# Altium integrated library TI Data Converters Analog to Digital Converter.IntLib: 2198 symbols (part 57 of 164)
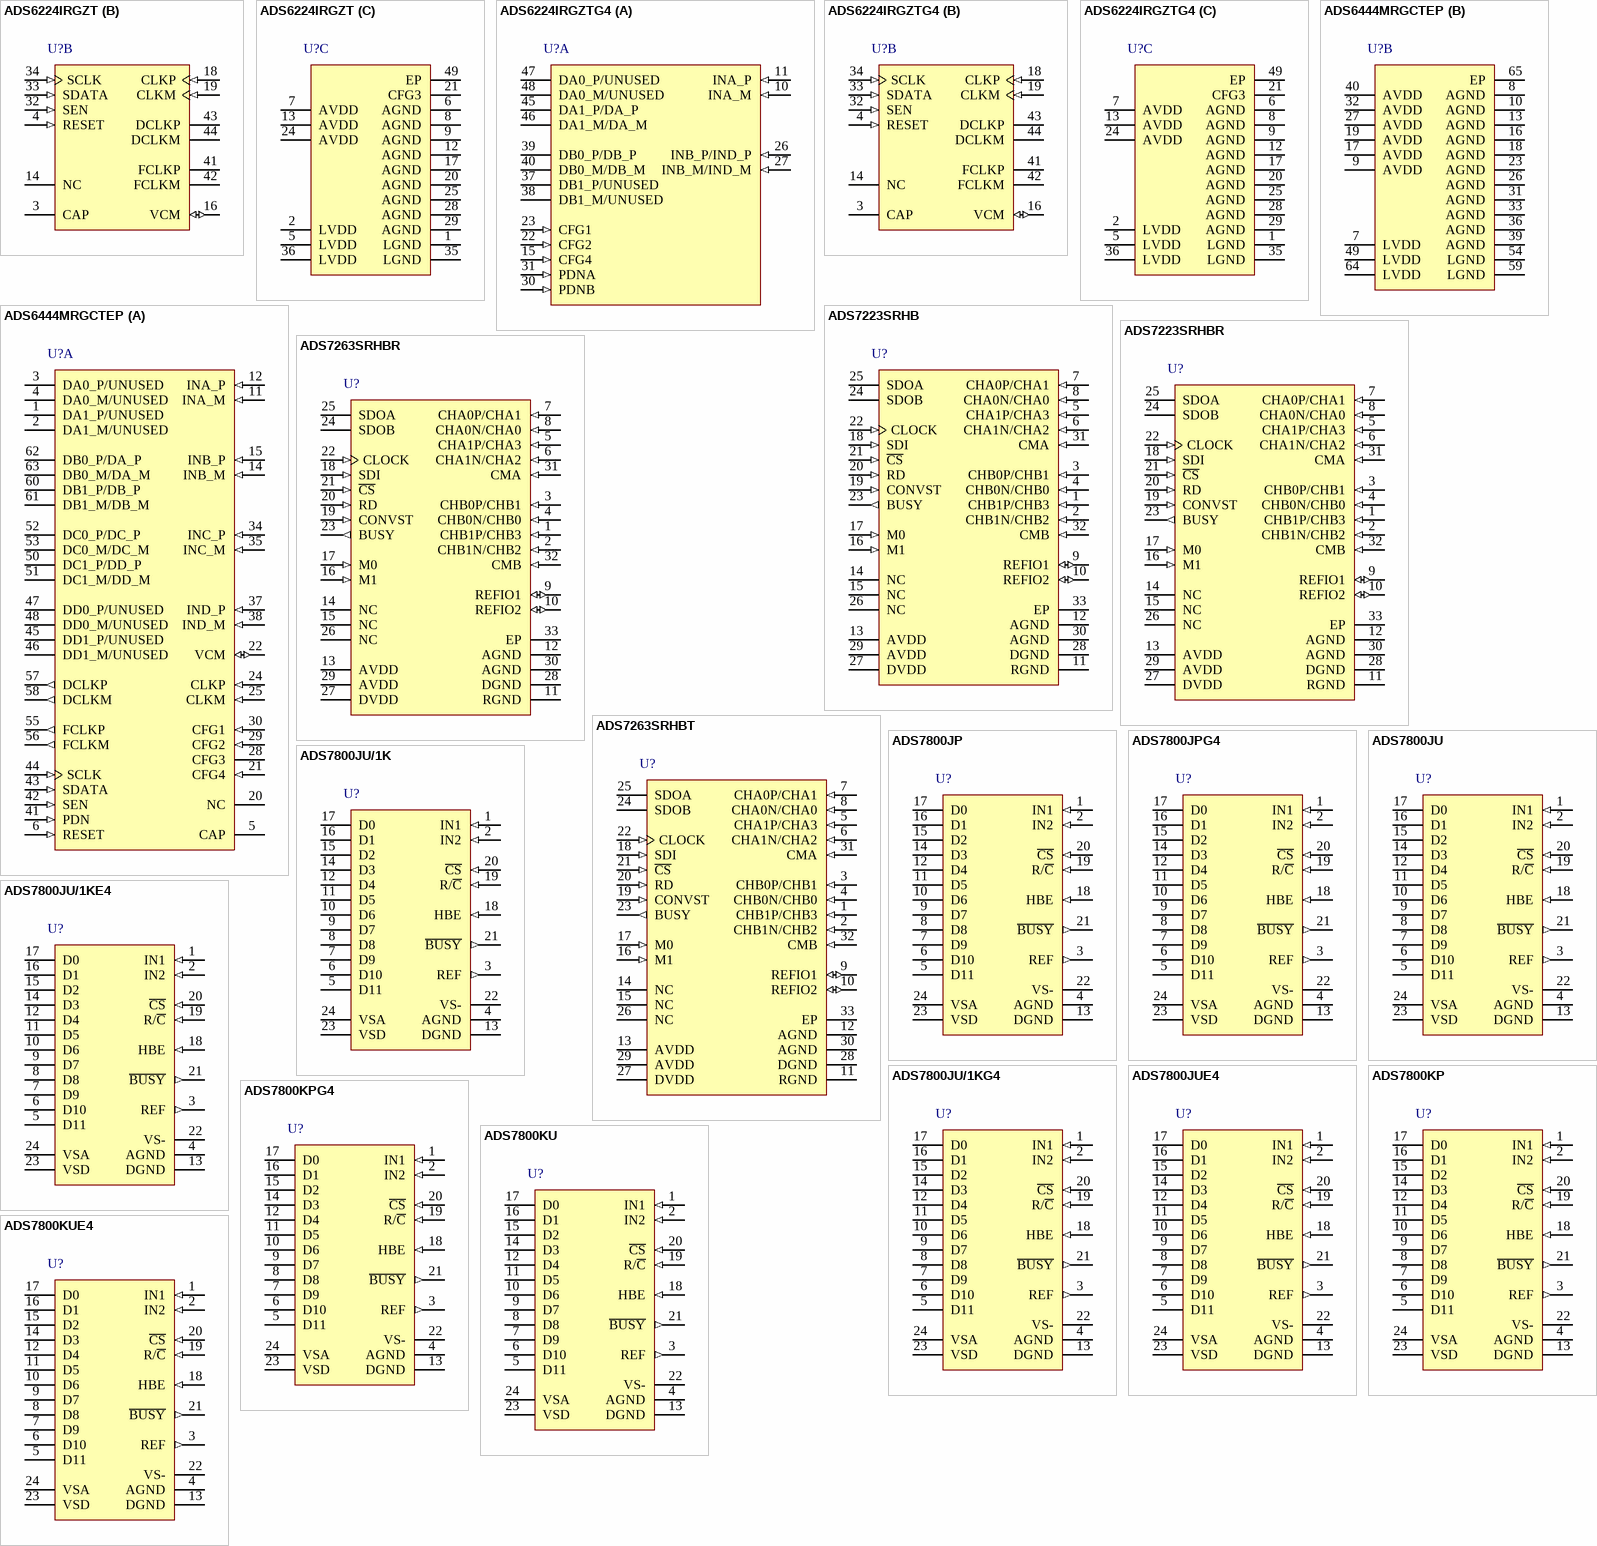
[diagram p182: symbols ADS6224IRGZT to ADS7800KUE4]

## ADS7263SRHBT
designator U?
14-Bit 1 MSPS 4 x 2 / 2 x 2 Simultaneous Sampling SAR ADC, -40 to 125 degC, 32-pin QFN (RHB32), Green (RoHS & no Sb/Br); Manufacturer: Texas Instruments; PartNumber: ADS7263SRHBT; # Input Channels: 4; Analog Voltage AV/DD(Max)(V): 5.5; Analog Voltage AV/DD(Min)(V): 2.7; Digital Supply(Min)(V): 2.3; INL(Max)(+/-LSB): 1; Interface: Serial; Resolution(Bits): 14; Sample Rate (max)(SPS): 1M; SFDR(dB): 92; SINAD(dB): 84; SNR(dB): 85; SubFamily: Precision ADC (<=10MSPS); DatasheetVersion: SBAS523B; PackageVersion: 4204326/D, 06/2011; PackageReference: RHB32-3450X3450TP; PackageDescription: 32-Pin Plastic Flat Pack, Body 5 x 5 mm, Pitch 0.5 mm; Supplier 1: Digi-Key; Supplier Part Number 1: ADS1217IPFBTG4-ND; Architecture: SAR; Digital Supply(Max)(V): 5.5; Eco-Plan: Green (RoHS & no Sb/Br); Mounting Technology: Surface Mount; Code_JEDEC: MO-220; ComponentLink1Description: Manufacturer URL; ComponentLink1URL: http://www.ti.com/; ComponentLink2Description: Datasheet; ComponentLink2URL: http://www.ti.com/general/docs/lit/getliterature.tsp?genericPartNumber=ADS7263&fileType=pdf; ComponentLink3Description: Package Specification; ComponentLink3URL: http://www.ti.com/lit/ml/mpqf130c/mpqf130c.pdf
footprint TI-RHB32-3450X3450TP_V (QFN, 32-Leads, Body 5x5mm, Pitch 0.5mm, Thermal Pad 3.45x3.45mm)
pins: 1 CHB1P/CHB3 (in) "Fully-differential noninverting analog input channel B1 or pseudo-differential input B3", 2 CHB1N/CHB2 (in) "Fully-differential inverting analog input channel B1 or pseudo-differential input B2", 3 CHB0P/CHB1 (in) "Fully-differential noninverting analog input channel B0 or pseudo-differential input B1", 4 CHB0N/CHB0 (in) "Fully-differential inverting analog input channel B0 or pseudo-differential input B0", 5 CHA1P/CHA3 (in) "Fully-differential noninverting analog input channel A1 or pseudo-differential input A3", 6 CHA1N/CHA2 (in) "Fully-differential inverting analog input channel A1 or pseudo-differential input A2", 7 CHA0P/CHA1 (in) "Fully-differential nonInverting analog input channel A1 or pseudo-differential input A1", 8 CHA0N/CHA0 (in) "Fully-differential inverting analog input channel A1 or pseudo-differential input A0", 9 REFIO1 (io) "Reference voltage input/output 1. A ceramic capacitor of 22uF connected to RGND is required.", 10 REFIO2 (io) "Reference voltage input/output 2. A ceramic capacitor of 22uF connected to RGND is required.", 11 RGND (power) "Reference ground. Connect to analog ground plane with a dedicated via.", 12 AGND (power) "Analog ground. Connect to analog ground plane.", 13 AVDD (power) "Analog power supply, 2.7V to 5.5V. Decouple to AGND with a 1uF ceramic capacitor.", 14 NC "This pin is not internally connected.", 15 NC "This pin is not internally connected.", 16 M1 (in) "Mode pin 1. Selects the digital output mode (see Table 4).", 17 M0 (in) "Mode pin 0. Selects analog input channel mode (see Table 4).", 18 SDI (in) "Serial data input. This pin is used to set up of the internal registers, and can also be used in ADS8361-compatible manner. The data on SDI are ignored when C\S\is high.", 19 CONVST (in) "Conversion start. The ADC switches from sample into hold mode on the rising edge of CONVST. Thereafter, the conversion starts with the next rising edge of the CLOCK pin.", 20 RD (in) "Read data. Synchronization pulse for the SDOx outputs and SDI input. RD only triggers when C\S\ is low.", 21 ~{CS} (in) "Chip select. When this pin is low, the SDOx, SDI, and RD pins are active; when this pin is high, the SDOx outputs are 3-stated, while the SDI and RD inputs are ignored.", 22 CLOCK (in) "External clock input. The range is 0.5MHz to 20MHz in half-clock mode, or 1MHz to 40MHz in full-clock mode.", 23 BUSY (out) "Converter busy indicator. BUSY goes high when the inputs are in hold mode and returns to low after the conversion is complete.", 24 SDOB (hiz) "Serial data output for converter B. Active only if M1 is low. 3-state when C\S\ is high.", 25 SDOA (hiz) "Serial data output for converter A. 3-state when C\S\ is high.", 26 NC "This pin is not internally connected.", 27 DVDD (power) "Digital supply, 2.3V to 5.5V. Decouple to DGND with a 1uF ceramic capacitor.", 28 DGND (power) "Digital ground. Connect to digital ground plane.", 29 AVDD (power) "Analog power supply, 2.7V to 5.5V. Decouple to AGND with a 1uF ceramic capacitor.", 30 AGND (power) "Analog ground. Connect to analog ground plane.", 31 CMA (in) "Common-mode voltage input for channels Ax (in pseudo-differential mode only).", 32 CMB (in) "Common-mode voltage input for channels Bx (in pseudo-differential mode only).", 33 EP

## ADS7800JP
designator U?
12-Bit 3 us Sampling ADC, -40 to 85 degC, 24-pin DIP (NT24), Green (RoHS & no Sb/Br); Manufacturer: Texas Instruments; PartNumber: ADS7800JP; # Input Channels: 1; Analog Voltage AV/DD(Max)(V): 5.25; Analog Voltage AV/DD(Min)(V): 4.75; Architecture: SAR; Interface: Parallel CMOS; Resolution(Bits): 12; Sample Rate (max)(SPS): 333k; SFDR(dB): 77; SINAD(dB): 70; SNR(dB): 71; SubFamily: Precision ADC (<=10MSPS); DatasheetVersion: SBAS001A; PackageVersion: 4040050/C, 04/2009; PackageReference: NT24; PackageDescription: 24-Pin Plastic Dual-In-Line Package, Body 31.64 x 6.73 mm, Pitch 2.54 mm; Supplier 1: Digi-Key; Supplier Part Number 1: 296-13063-ND; Digital Supply(Max)(V): 5.25; Digital Supply(Min)(V): 4.75; Eco-Plan: Green (RoHS & no Sb/Br); INL(Max)(+/-LSB): 1; Mounting Technology: Through Hole; ComponentLink1Description: Manufacturer URL; ComponentLink1URL: http://www.ti.com/; ComponentLink2Description: Datasheet; ComponentLink2URL: http://www.ti.com/general/docs/lit/getliterature.tsp?genericPartNumber=ADS7800&fileType=pdf; ComponentLink3Description: Package Specification; ComponentLink3URL: http://www.ti.com/litv/pdf/mpdi004a
footprint TI-NT24 (DIP, 24-Leads, Body 31.64x6.73mm, Pitch 2.54mm)
pins: 1 IN1 (in) "+/-10V Analog Input. Connected to GND for +/-5V range.", 2 IN2 (in) "+/-5V Analog Input. Connected to GND for +/-10V range.", 3 REF (out) "+2V Reference Output. Bypass to GND with 22uF to 47uF Tantalum. Buffer for external loads.", 4 AGND (power) "Analog Ground. Connect to pin 13.", 5 D11 (hiz) "Data Bit 11. Most Significant Bit (MSB).", 6 D10 (hiz) "Data Bit 10.", 7 D9 (hiz) "Data Bit 9.", 8 D8 (hiz) "Data Bit 8.", 9 D7 (hiz) "Data Bit 7 if HBE is LOW; LOW if HBE is HIGH.", 10 D6 (hiz) "Data Bit 6 if HBE is LOW; LOW if HBE is HIGH.", 11 D5 (hiz) "Data Bit 5 if HBE is LOW; LOW if HBE is HIGH.", 12 D4 (hiz) "Data Bit 4 if HBE is LOW; LOW if HBE is HIGH.", 13 DGND (power) "Digital Ground. Connect to pin 4.", 14 D3 (hiz) "Data Bit 3 if HBE is LOW; Data Bit 11 if HBE is HIGH.", 15 D2 (hiz) "Data Bit 2 if HBE is LOW; Data Bit 10 if HBE is HIGH.", 16 D1 (hiz) "Data Bit 1 if HBE is LOW; Data Bit 9 if HBE is HIGH.", 17 D0 (hiz) "Data Bit 0 if HBE is LOW. Least Significant Bit (LSB); Data Bit 8 if HBE is HIGH.", 18 HBE (in) "High Byte Enable. When held LOW, data output as 12 bits in parallel. When held HIGH, four MSBs presented on pins 14-17, pins 9-12 output LOWs. Must be LOW to initiate conversion.", 19 R/~{C} (in) "Read/Convert. Falling edge initiates conversion when C\S\ is LOW, HBE is LOW, and B\U\S\Y\ is HIGH.", 20 ~{CS} (in) "Chip Select. Outputs in Hi-Z state when HIGH. Must be LOW to initiate conversion or read data.", 21 ~{BUSY} (out) "Busy. Output LOW during conversion. Data valid on rising edge in Convert Mode.", 22 VS- (power) "Negative Power Supply. -12V or -15V. Bypass to GND.", 23 VSD (power) "Positive Digital Power Supply. +5V. Connect to pin 24, and bypass to GND.", 24 VSA (power) "Positive Analog Power Supply. +5V. Connect to pin 23, and bypass to GND."

## ADS7800JPG4
designator U?
12-Bit 3 us Sampling ADC, -40 to 85 degC, 24-pin DIP (NT24), Green (RoHS & no Sb/Br); Manufacturer: Texas Instruments; PartNumber: ADS7800JPG4; # Input Channels: 1; Analog Voltage AV/DD(Max)(V): 5.25; Analog Voltage AV/DD(Min)(V): 4.75; Architecture: SAR; Interface: Parallel CMOS; Resolution(Bits): 12; Sample Rate (max)(SPS): 333k; SFDR(dB): 77; SINAD(dB): 70; SNR(dB): 71; SubFamily: Precision ADC (<=10MSPS); DatasheetVersion: SBAS001A; PackageVersion: 4040050/C, 04/2009; PackageReference: NT24; PackageDescription: 24-Pin Plastic Dual-In-Line Package, Body 31.64 x 6.73 mm, Pitch 2.54 mm; Supplier 1: Digi-Key; Supplier Part Number 1: ADS5103IPFBG4-ND; Digital Supply(Max)(V): 5.25; Digital Supply(Min)(V): 4.75; Eco-Plan: Green (RoHS & no Sb/Br); INL(Max)(+/-LSB): 1; Mounting Technology: Through Hole; ComponentLink1Description: Manufacturer URL; ComponentLink1URL: http://www.ti.com/; ComponentLink2Description: Datasheet; ComponentLink2URL: http://www.ti.com/general/docs/lit/getliterature.tsp?genericPartNumber=ADS7800&fileType=pdf; ComponentLink3Description: Package Specification; ComponentLink3URL: http://www.ti.com/litv/pdf/mpdi004a
footprint TI-NT24 (DIP, 24-Leads, Body 31.64x6.73mm, Pitch 2.54mm)
pins: 1 IN1 (in) "+/-10V Analog Input. Connected to GND for +/-5V range.", 2 IN2 (in) "+/-5V Analog Input. Connected to GND for +/-10V range.", 3 REF (out) "+2V Reference Output. Bypass to GND with 22uF to 47uF Tantalum. Buffer for external loads.", 4 AGND (power) "Analog Ground. Connect to pin 13.", 5 D11 (hiz) "Data Bit 11. Most Significant Bit (MSB).", 6 D10 (hiz) "Data Bit 10.", 7 D9 (hiz) "Data Bit 9.", 8 D8 (hiz) "Data Bit 8.", 9 D7 (hiz) "Data Bit 7 if HBE is LOW; LOW if HBE is HIGH.", 10 D6 (hiz) "Data Bit 6 if HBE is LOW; LOW if HBE is HIGH.", 11 D5 (hiz) "Data Bit 5 if HBE is LOW; LOW if HBE is HIGH.", 12 D4 (hiz) "Data Bit 4 if HBE is LOW; LOW if HBE is HIGH.", 13 DGND (power) "Digital Ground. Connect to pin 4.", 14 D3 (hiz) "Data Bit 3 if HBE is LOW; Data Bit 11 if HBE is HIGH.", 15 D2 (hiz) "Data Bit 2 if HBE is LOW; Data Bit 10 if HBE is HIGH.", 16 D1 (hiz) "Data Bit 1 if HBE is LOW; Data Bit 9 if HBE is HIGH.", 17 D0 (hiz) "Data Bit 0 if HBE is LOW. Least Significant Bit (LSB); Data Bit 8 if HBE is HIGH.", 18 HBE (in) "High Byte Enable. When held LOW, data output as 12 bits in parallel. When held HIGH, four MSBs presented on pins 14-17, pins 9-12 output LOWs. Must be LOW to initiate conversion.", 19 R/~{C} (in) "Read/Convert. Falling edge initiates conversion when C\S\ is LOW, HBE is LOW, and B\U\S\Y\ is HIGH.", 20 ~{CS} (in) "Chip Select. Outputs in Hi-Z state when HIGH. Must be LOW to initiate conversion or read data.", 21 ~{BUSY} (out) "Busy. Output LOW during conversion. Data valid on rising edge in Convert Mode.", 22 VS- (power) "Negative Power Supply. -12V or -15V. Bypass to GND.", 23 VSD (power) "Positive Digital Power Supply. +5V. Connect to pin 24, and bypass to GND.", 24 VSA (power) "Positive Analog Power Supply. +5V. Connect to pin 23, and bypass to GND."

## ADS7800JU
designator U?
12-Bit 3 us Sampling ADC, -40 to 85 degC, 24-pin SOIC (DW24), Green (RoHS & no Sb/Br); Manufacturer: Texas Instruments; PartNumber: ADS7800JU; # Input Channels: 1; Analog Voltage AV/DD(Max)(V): 5.25; Analog Voltage AV/DD(Min)(V): 4.75; Architecture: SAR; Interface: Parallel CMOS; Resolution(Bits): 12; Sample Rate (max)(SPS): 333k; SFDR(dB): 77; SINAD(dB): 70; SNR(dB): 71; SubFamily: Precision ADC (<=10MSPS); DatasheetVersion: SBAS001A; PackageVersion: 4040000-5/G, 01/2011; PackageReference: DW24; PackageDescription: 24-Pin Plastic Small Outline, Body 15.4 x 7.5 mm, Pitch 1.27 mm; Supplier 1: Digi-Key; Supplier Part Number 1: ADS1218Y/250TR-ND; Digital Supply(Max)(V): 5.25; Digital Supply(Min)(V): 4.75; Eco-Plan: Green (RoHS & no Sb/Br); INL(Max)(+/-LSB): 1; Mounting Technology: Surface Mount; Code_JEDEC: MS-013; ComponentLink1Description: Manufacturer URL; ComponentLink1URL: http://www.ti.com/; ComponentLink2Description: Datasheet; ComponentLink2URL: http://www.ti.com/general/docs/lit/getliterature.tsp?genericPartNumber=ADS7800&fileType=pdf; ComponentLink3Description: Package Specification; ComponentLink3URL: http://www.ti.com/litv/pdf/mpds174a
footprint TI-DW24_N (SOIC, 24-Leads, Body 15.4x7.5mm, Pitch 1.27mm, IPC Medium Density)
footprint TI-DW24_L (SOIC, 24-Leads, Body 15.4x7.5mm, Pitch 1.27mm, IPC High Density)
footprint TI-DW24_M (SOIC, 24-Leads, Body 15.4x7.5mm, Pitch 1.27mm, IPC Low Density)
pins: 1 IN1 (in) "+/-10V Analog Input. Connected to GND for +/-5V range.", 2 IN2 (in) "+/-5V Analog Input. Connected to GND for +/-10V range.", 3 REF (out) "+2V Reference Output. Bypass to GND with 22uF to 47uF Tantalum. Buffer for external loads.", 4 AGND (power) "Analog Ground. Connect to pin 13.", 5 D11 (hiz) "Data Bit 11. Most Significant Bit (MSB).", 6 D10 (hiz) "Data Bit 10.", 7 D9 (hiz) "Data Bit 9.", 8 D8 (hiz) "Data Bit 8.", 9 D7 (hiz) "Data Bit 7 if HBE is LOW; LOW if HBE is HIGH.", 10 D6 (hiz) "Data Bit 6 if HBE is LOW; LOW if HBE is HIGH.", 11 D5 (hiz) "Data Bit 5 if HBE is LOW; LOW if HBE is HIGH.", 12 D4 (hiz) "Data Bit 4 if HBE is LOW; LOW if HBE is HIGH.", 13 DGND (power) "Digital Ground. Connect to pin 4.", 14 D3 (hiz) "Data Bit 3 if HBE is LOW; Data Bit 11 if HBE is HIGH.", 15 D2 (hiz) "Data Bit 2 if HBE is LOW; Data Bit 10 if HBE is HIGH.", 16 D1 (hiz) "Data Bit 1 if HBE is LOW; Data Bit 9 if HBE is HIGH.", 17 D0 (hiz) "Data Bit 0 if HBE is LOW. Least Significant Bit (LSB); Data Bit 8 if HBE is HIGH.", 18 HBE (in) "High Byte Enable. When held LOW, data output as 12 bits in parallel. When held HIGH, four MSBs presented on pins 14-17, pins 9-12 output LOWs. Must be LOW to initiate conversion.", 19 R/~{C} (in) "Read/Convert. Falling edge initiates conversion when C\S\ is LOW, HBE is LOW, and B\U\S\Y\ is HIGH.", 20 ~{CS} (in) "Chip Select. Outputs in Hi-Z state when HIGH. Must be LOW to initiate conversion or read data.", 21 ~{BUSY} (out) "Busy. Output LOW during conversion. Data valid on rising edge in Convert Mode.", 22 VS- (power) "Negative Power Supply. -12V or -15V. Bypass to GND.", 23 VSD (power) "Positive Digital Power Supply. +5V. Connect to pin 24, and bypass to GND.", 24 VSA (power) "Positive Analog Power Supply. +5V. Connect to pin 23, and bypass to GND."

## ADS7800JU/1K
designator U?
12-Bit 3 us Sampling ADC, -40 to 85 degC, 24-pin SOIC (DW24), Green (RoHS & no Sb/Br); Manufacturer: Texas Instruments; PartNumber: ADS7800JU/1K; # Input Channels: 1; Analog Voltage AV/DD(Max)(V): 5.25; Analog Voltage AV/DD(Min)(V): 4.75; Architecture: SAR; Interface: Parallel CMOS; Resolution(Bits): 12; Sample Rate (max)(SPS): 333k; SFDR(dB): 77; SINAD(dB): 70; SNR(dB): 71; SubFamily: Precision ADC (<=10MSPS); DatasheetVersion: SBAS001A; PackageVersion: 4040000-5/G, 01/2011; PackageReference: DW24; PackageDescription: 24-Pin Plastic Small Outline, Body 15.4 x 7.5 mm, Pitch 1.27 mm; Supplier 1: Digi-Key; Supplier Part Number 1: ADS1218Y/250G4-ND; Digital Supply(Max)(V): 5.25; Digital Supply(Min)(V): 4.75; Eco-Plan: Green (RoHS & no Sb/Br); INL(Max)(+/-LSB): 1; Mounting Technology: Surface Mount; Code_JEDEC: MS-013; ComponentLink1Description: Manufacturer URL; ComponentLink1URL: http://www.ti.com/; ComponentLink2Description: Datasheet; ComponentLink2URL: http://www.ti.com/general/docs/lit/getliterature.tsp?genericPartNumber=ADS7800&fileType=pdf; ComponentLink3Description: Package Specification; ComponentLink3URL: http://www.ti.com/litv/pdf/mpds174a
footprint TI-DW24_N (SOIC, 24-Leads, Body 15.4x7.5mm, Pitch 1.27mm, IPC Medium Density)
footprint TI-DW24_L (SOIC, 24-Leads, Body 15.4x7.5mm, Pitch 1.27mm, IPC High Density)
footprint TI-DW24_M (SOIC, 24-Leads, Body 15.4x7.5mm, Pitch 1.27mm, IPC Low Density)
pins: 1 IN1 (in) "+/-10V Analog Input. Connected to GND for +/-5V range.", 2 IN2 (in) "+/-5V Analog Input. Connected to GND for +/-10V range.", 3 REF (out) "+2V Reference Output. Bypass to GND with 22uF to 47uF Tantalum. Buffer for external loads.", 4 AGND (power) "Analog Ground. Connect to pin 13.", 5 D11 (hiz) "Data Bit 11. Most Significant Bit (MSB).", 6 D10 (hiz) "Data Bit 10.", 7 D9 (hiz) "Data Bit 9.", 8 D8 (hiz) "Data Bit 8.", 9 D7 (hiz) "Data Bit 7 if HBE is LOW; LOW if HBE is HIGH.", 10 D6 (hiz) "Data Bit 6 if HBE is LOW; LOW if HBE is HIGH.", 11 D5 (hiz) "Data Bit 5 if HBE is LOW; LOW if HBE is HIGH.", 12 D4 (hiz) "Data Bit 4 if HBE is LOW; LOW if HBE is HIGH.", 13 DGND (power) "Digital Ground. Connect to pin 4.", 14 D3 (hiz) "Data Bit 3 if HBE is LOW; Data Bit 11 if HBE is HIGH.", 15 D2 (hiz) "Data Bit 2 if HBE is LOW; Data Bit 10 if HBE is HIGH.", 16 D1 (hiz) "Data Bit 1 if HBE is LOW; Data Bit 9 if HBE is HIGH.", 17 D0 (hiz) "Data Bit 0 if HBE is LOW. Least Significant Bit (LSB); Data Bit 8 if HBE is HIGH.", 18 HBE (in) "High Byte Enable. When held LOW, data output as 12 bits in parallel. When held HIGH, four MSBs presented on pins 14-17, pins 9-12 output LOWs. Must be LOW to initiate conversion.", 19 R/~{C} (in) "Read/Convert. Falling edge initiates conversion when C\S\ is LOW, HBE is LOW, and B\U\S\Y\ is HIGH.", 20 ~{CS} (in) "Chip Select. Outputs in Hi-Z state when HIGH. Must be LOW to initiate conversion or read data.", 21 ~{BUSY} (out) "Busy. Output LOW during conversion. Data valid on rising edge in Convert Mode.", 22 VS- (power) "Negative Power Supply. -12V or -15V. Bypass to GND.", 23 VSD (power) "Positive Digital Power Supply. +5V. Connect to pin 24, and bypass to GND.", 24 VSA (power) "Positive Analog Power Supply. +5V. Connect to pin 23, and bypass to GND."

## ADS7800JU/1KE4
designator U?
12-Bit 3 us Sampling ADC, -40 to 85 degC, 24-pin SOIC (DW24), Green (RoHS & no Sb/Br); Manufacturer: Texas Instruments; PartNumber: ADS7800JU/1KE4; # Input Channels: 1; Analog Voltage AV/DD(Max)(V): 5.25; Analog Voltage AV/DD(Min)(V): 4.75; Architecture: SAR; Interface: Parallel CMOS; Resolution(Bits): 12; Sample Rate (max)(SPS): 333k; SFDR(dB): 77; SINAD(dB): 70; SNR(dB): 71; SubFamily: Precision ADC (<=10MSPS); DatasheetVersion: SBAS001A; PackageVersion: 4040000-5/G, 01/2011; PackageReference: DW24; PackageDescription: 24-Pin Plastic Small Outline, Body 15.4 x 7.5 mm, Pitch 1.27 mm; Supplier 1: Digi-Key; Supplier Part Number 1: ADS1216Y/250TR-ND; Digital Supply(Max)(V): 5.25; Digital Supply(Min)(V): 4.75; Eco-Plan: Green (RoHS & no Sb/Br); INL(Max)(+/-LSB): 1; Mounting Technology: Surface Mount; Code_JEDEC: MS-013; ComponentLink1Description: Manufacturer URL; ComponentLink1URL: http://www.ti.com/; ComponentLink2Description: Datasheet; ComponentLink2URL: http://www.ti.com/general/docs/lit/getliterature.tsp?genericPartNumber=ADS7800&fileType=pdf; ComponentLink3Description: Package Specification; ComponentLink3URL: http://www.ti.com/litv/pdf/mpds174a
footprint TI-DW24_N (SOIC, 24-Leads, Body 15.4x7.5mm, Pitch 1.27mm, IPC Medium Density)
footprint TI-DW24_L (SOIC, 24-Leads, Body 15.4x7.5mm, Pitch 1.27mm, IPC High Density)
footprint TI-DW24_M (SOIC, 24-Leads, Body 15.4x7.5mm, Pitch 1.27mm, IPC Low Density)
pins: 1 IN1 (in) "+/-10V Analog Input. Connected to GND for +/-5V range.", 2 IN2 (in) "+/-5V Analog Input. Connected to GND for +/-10V range.", 3 REF (out) "+2V Reference Output. Bypass to GND with 22uF to 47uF Tantalum. Buffer for external loads.", 4 AGND (power) "Analog Ground. Connect to pin 13.", 5 D11 (hiz) "Data Bit 11. Most Significant Bit (MSB).", 6 D10 (hiz) "Data Bit 10.", 7 D9 (hiz) "Data Bit 9.", 8 D8 (hiz) "Data Bit 8.", 9 D7 (hiz) "Data Bit 7 if HBE is LOW; LOW if HBE is HIGH.", 10 D6 (hiz) "Data Bit 6 if HBE is LOW; LOW if HBE is HIGH.", 11 D5 (hiz) "Data Bit 5 if HBE is LOW; LOW if HBE is HIGH.", 12 D4 (hiz) "Data Bit 4 if HBE is LOW; LOW if HBE is HIGH.", 13 DGND (power) "Digital Ground. Connect to pin 4.", 14 D3 (hiz) "Data Bit 3 if HBE is LOW; Data Bit 11 if HBE is HIGH.", 15 D2 (hiz) "Data Bit 2 if HBE is LOW; Data Bit 10 if HBE is HIGH.", 16 D1 (hiz) "Data Bit 1 if HBE is LOW; Data Bit 9 if HBE is HIGH.", 17 D0 (hiz) "Data Bit 0 if HBE is LOW. Least Significant Bit (LSB); Data Bit 8 if HBE is HIGH.", 18 HBE (in) "High Byte Enable. When held LOW, data output as 12 bits in parallel. When held HIGH, four MSBs presented on pins 14-17, pins 9-12 output LOWs. Must be LOW to initiate conversion.", 19 R/~{C} (in) "Read/Convert. Falling edge initiates conversion when C\S\ is LOW, HBE is LOW, and B\U\S\Y\ is HIGH.", 20 ~{CS} (in) "Chip Select. Outputs in Hi-Z state when HIGH. Must be LOW to initiate conversion or read data.", 21 ~{BUSY} (out) "Busy. Output LOW during conversion. Data valid on rising edge in Convert Mode.", 22 VS- (power) "Negative Power Supply. -12V or -15V. Bypass to GND.", 23 VSD (power) "Positive Digital Power Supply. +5V. Connect to pin 24, and bypass to GND.", 24 VSA (power) "Positive Analog Power Supply. +5V. Connect to pin 23, and bypass to GND."

## ADS7800JU/1KG4
designator U?
12-Bit 3 us Sampling ADC, -40 to 85 degC, 24-pin SOIC (DW24), Green (RoHS & no Sb/Br); Manufacturer: Texas Instruments; PartNumber: ADS7800JU/1KG4; # Input Channels: 1; Analog Voltage AV/DD(Max)(V): 5.25; Analog Voltage AV/DD(Min)(V): 4.75; Architecture: SAR; Interface: Parallel CMOS; Resolution(Bits): 12; Sample Rate (max)(SPS): 333k; SFDR(dB): 77; SINAD(dB): 70; SNR(dB): 71; SubFamily: Precision ADC (<=10MSPS); DatasheetVersion: SBAS001A; PackageVersion: 4040000-5/G, 01/2011; PackageReference: DW24; PackageDescription: 24-Pin Plastic Small Outline, Body 15.4 x 7.5 mm, Pitch 1.27 mm; Supplier 1: Digi-Key; Supplier Part Number 1: ADS1216Y/250G4-ND; Digital Supply(Max)(V): 5.25; Digital Supply(Min)(V): 4.75; Eco-Plan: Green (RoHS & no Sb/Br); INL(Max)(+/-LSB): 1; Mounting Technology: Surface Mount; Code_JEDEC: MS-013; ComponentLink1Description: Manufacturer URL; ComponentLink1URL: http://www.ti.com/; ComponentLink2Description: Datasheet; ComponentLink2URL: http://www.ti.com/general/docs/lit/getliterature.tsp?genericPartNumber=ADS7800&fileType=pdf; ComponentLink3Description: Package Specification; ComponentLink3URL: http://www.ti.com/litv/pdf/mpds174a
footprint TI-DW24_N (SOIC, 24-Leads, Body 15.4x7.5mm, Pitch 1.27mm, IPC Medium Density)
footprint TI-DW24_L (SOIC, 24-Leads, Body 15.4x7.5mm, Pitch 1.27mm, IPC High Density)
footprint TI-DW24_M (SOIC, 24-Leads, Body 15.4x7.5mm, Pitch 1.27mm, IPC Low Density)
pins: 1 IN1 (in) "+/-10V Analog Input. Connected to GND for +/-5V range.", 2 IN2 (in) "+/-5V Analog Input. Connected to GND for +/-10V range.", 3 REF (out) "+2V Reference Output. Bypass to GND with 22uF to 47uF Tantalum. Buffer for external loads.", 4 AGND (power) "Analog Ground. Connect to pin 13.", 5 D11 (hiz) "Data Bit 11. Most Significant Bit (MSB).", 6 D10 (hiz) "Data Bit 10.", 7 D9 (hiz) "Data Bit 9.", 8 D8 (hiz) "Data Bit 8.", 9 D7 (hiz) "Data Bit 7 if HBE is LOW; LOW if HBE is HIGH.", 10 D6 (hiz) "Data Bit 6 if HBE is LOW; LOW if HBE is HIGH.", 11 D5 (hiz) "Data Bit 5 if HBE is LOW; LOW if HBE is HIGH.", 12 D4 (hiz) "Data Bit 4 if HBE is LOW; LOW if HBE is HIGH.", 13 DGND (power) "Digital Ground. Connect to pin 4.", 14 D3 (hiz) "Data Bit 3 if HBE is LOW; Data Bit 11 if HBE is HIGH.", 15 D2 (hiz) "Data Bit 2 if HBE is LOW; Data Bit 10 if HBE is HIGH.", 16 D1 (hiz) "Data Bit 1 if HBE is LOW; Data Bit 9 if HBE is HIGH.", 17 D0 (hiz) "Data Bit 0 if HBE is LOW. Least Significant Bit (LSB); Data Bit 8 if HBE is HIGH.", 18 HBE (in) "High Byte Enable. When held LOW, data output as 12 bits in parallel. When held HIGH, four MSBs presented on pins 14-17, pins 9-12 output LOWs. Must be LOW to initiate conversion.", 19 R/~{C} (in) "Read/Convert. Falling edge initiates conversion when C\S\ is LOW, HBE is LOW, and B\U\S\Y\ is HIGH.", 20 ~{CS} (in) "Chip Select. Outputs in Hi-Z state when HIGH. Must be LOW to initiate conversion or read data.", 21 ~{BUSY} (out) "Busy. Output LOW during conversion. Data valid on rising edge in Convert Mode.", 22 VS- (power) "Negative Power Supply. -12V or -15V. Bypass to GND.", 23 VSD (power) "Positive Digital Power Supply. +5V. Connect to pin 24, and bypass to GND.", 24 VSA (power) "Positive Analog Power Supply. +5V. Connect to pin 23, and bypass to GND."

## ADS7800JUE4
designator U?
12-Bit 3 us Sampling ADC, -40 to 85 degC, 24-pin SOIC (DW24), Green (RoHS & no Sb/Br); Manufacturer: Texas Instruments; PartNumber: ADS7800JUE4; # Input Channels: 1; Analog Voltage AV/DD(Max)(V): 5.25; Analog Voltage AV/DD(Min)(V): 4.75; Architecture: SAR; Interface: Parallel CMOS; Resolution(Bits): 12; Sample Rate (max)(SPS): 333k; SFDR(dB): 77; SINAD(dB): 70; SNR(dB): 71; SubFamily: Precision ADC (<=10MSPS); DatasheetVersion: SBAS001A; PackageVersion: 4040000-5/G, 01/2011; PackageReference: DW24; PackageDescription: 24-Pin Plastic Small Outline, Body 15.4 x 7.5 mm, Pitch 1.27 mm; Supplier 1: Digi-Key; Supplier Part Number 1: ADS1216Y/2K-ND; Digital Supply(Max)(V): 5.25; Digital Supply(Min)(V): 4.75; Eco-Plan: Green (RoHS & no Sb/Br); INL(Max)(+/-LSB): 1; Mounting Technology: Surface Mount; Code_JEDEC: MS-013; ComponentLink1Description: Manufacturer URL; ComponentLink1URL: http://www.ti.com/; ComponentLink2Description: Datasheet; ComponentLink2URL: http://www.ti.com/general/docs/lit/getliterature.tsp?genericPartNumber=ADS7800&fileType=pdf; ComponentLink3Description: Package Specification; ComponentLink3URL: http://www.ti.com/litv/pdf/mpds174a
footprint TI-DW24_N (SOIC, 24-Leads, Body 15.4x7.5mm, Pitch 1.27mm, IPC Medium Density)
footprint TI-DW24_L (SOIC, 24-Leads, Body 15.4x7.5mm, Pitch 1.27mm, IPC High Density)
footprint TI-DW24_M (SOIC, 24-Leads, Body 15.4x7.5mm, Pitch 1.27mm, IPC Low Density)
pins: 1 IN1 (in) "+/-10V Analog Input. Connected to GND for +/-5V range.", 2 IN2 (in) "+/-5V Analog Input. Connected to GND for +/-10V range.", 3 REF (out) "+2V Reference Output. Bypass to GND with 22uF to 47uF Tantalum. Buffer for external loads.", 4 AGND (power) "Analog Ground. Connect to pin 13.", 5 D11 (hiz) "Data Bit 11. Most Significant Bit (MSB).", 6 D10 (hiz) "Data Bit 10.", 7 D9 (hiz) "Data Bit 9.", 8 D8 (hiz) "Data Bit 8.", 9 D7 (hiz) "Data Bit 7 if HBE is LOW; LOW if HBE is HIGH.", 10 D6 (hiz) "Data Bit 6 if HBE is LOW; LOW if HBE is HIGH.", 11 D5 (hiz) "Data Bit 5 if HBE is LOW; LOW if HBE is HIGH.", 12 D4 (hiz) "Data Bit 4 if HBE is LOW; LOW if HBE is HIGH.", 13 DGND (power) "Digital Ground. Connect to pin 4.", 14 D3 (hiz) "Data Bit 3 if HBE is LOW; Data Bit 11 if HBE is HIGH.", 15 D2 (hiz) "Data Bit 2 if HBE is LOW; Data Bit 10 if HBE is HIGH.", 16 D1 (hiz) "Data Bit 1 if HBE is LOW; Data Bit 9 if HBE is HIGH.", 17 D0 (hiz) "Data Bit 0 if HBE is LOW. Least Significant Bit (LSB); Data Bit 8 if HBE is HIGH.", 18 HBE (in) "High Byte Enable. When held LOW, data output as 12 bits in parallel. When held HIGH, four MSBs presented on pins 14-17, pins 9-12 output LOWs. Must be LOW to initiate conversion.", 19 R/~{C} (in) "Read/Convert. Falling edge initiates conversion when C\S\ is LOW, HBE is LOW, and B\U\S\Y\ is HIGH.", 20 ~{CS} (in) "Chip Select. Outputs in Hi-Z state when HIGH. Must be LOW to initiate conversion or read data.", 21 ~{BUSY} (out) "Busy. Output LOW during conversion. Data valid on rising edge in Convert Mode.", 22 VS- (power) "Negative Power Supply. -12V or -15V. Bypass to GND.", 23 VSD (power) "Positive Digital Power Supply. +5V. Connect to pin 24, and bypass to GND.", 24 VSA (power) "Positive Analog Power Supply. +5V. Connect to pin 23, and bypass to GND."

## ADS7800KP
designator U?
12-Bit 3 us Sampling ADC, -40 to 85 degC, 24-pin DIP (NT24), Green (RoHS & no Sb/Br); Manufacturer: Texas Instruments; PartNumber: ADS7800KP; # Input Channels: 1; Analog Voltage AV/DD(Max)(V): 5.25; Analog Voltage AV/DD(Min)(V): 4.75; Architecture: SAR; INL(Max)(+/-LSB): 0.5; Interface: Parallel CMOS; Resolution(Bits): 12; Sample Rate (max)(SPS): 333k; SFDR(dB): 80; SINAD(dB): 72; SNR(dB): 73; SubFamily: Precision ADC (<=10MSPS); DatasheetVersion: SBAS001A; PackageVersion: 4040050/C, 04/2009; PackageReference: NT24; PackageDescription: 24-Pin Plastic Dual-In-Line Package, Body 31.64 x 6.73 mm, Pitch 2.54 mm; Supplier 1: Digi-Key; Supplier Part Number 1: ADS1216Y/2KG4-ND; Digital Supply(Max)(V): 5.25; Digital Supply(Min)(V): 4.75; Eco-Plan: Green (RoHS & no Sb/Br); Mounting Technology: Through Hole; ComponentLink1Description: Manufacturer URL; ComponentLink1URL: http://www.ti.com/; ComponentLink2Description: Datasheet; ComponentLink2URL: http://www.ti.com/general/docs/lit/getliterature.tsp?genericPartNumber=ADS7800&fileType=pdf; ComponentLink3Description: Package Specification; ComponentLink3URL: http://www.ti.com/litv/pdf/mpdi004a
footprint TI-NT24 (DIP, 24-Leads, Body 31.64x6.73mm, Pitch 2.54mm)
pins: 1 IN1 (in) "+/-10V Analog Input. Connected to GND for +/-5V range.", 2 IN2 (in) "+/-5V Analog Input. Connected to GND for +/-10V range.", 3 REF (out) "+2V Reference Output. Bypass to GND with 22uF to 47uF Tantalum. Buffer for external loads.", 4 AGND (power) "Analog Ground. Connect to pin 13.", 5 D11 (hiz) "Data Bit 11. Most Significant Bit (MSB).", 6 D10 (hiz) "Data Bit 10.", 7 D9 (hiz) "Data Bit 9.", 8 D8 (hiz) "Data Bit 8.", 9 D7 (hiz) "Data Bit 7 if HBE is LOW; LOW if HBE is HIGH.", 10 D6 (hiz) "Data Bit 6 if HBE is LOW; LOW if HBE is HIGH.", 11 D5 (hiz) "Data Bit 5 if HBE is LOW; LOW if HBE is HIGH.", 12 D4 (hiz) "Data Bit 4 if HBE is LOW; LOW if HBE is HIGH.", 13 DGND (power) "Digital Ground. Connect to pin 4.", 14 D3 (hiz) "Data Bit 3 if HBE is LOW; Data Bit 11 if HBE is HIGH.", 15 D2 (hiz) "Data Bit 2 if HBE is LOW; Data Bit 10 if HBE is HIGH.", 16 D1 (hiz) "Data Bit 1 if HBE is LOW; Data Bit 9 if HBE is HIGH.", 17 D0 (hiz) "Data Bit 0 if HBE is LOW. Least Significant Bit (LSB); Data Bit 8 if HBE is HIGH.", 18 HBE (in) "High Byte Enable. When held LOW, data output as 12 bits in parallel. When held HIGH, four MSBs presented on pins 14-17, pins 9-12 output LOWs. Must be LOW to initiate conversion.", 19 R/~{C} (in) "Read/Convert. Falling edge initiates conversion when C\S\ is LOW, HBE is LOW, and B\U\S\Y\ is HIGH.", 20 ~{CS} (in) "Chip Select. Outputs in Hi-Z state when HIGH. Must be LOW to initiate conversion or read data.", 21 ~{BUSY} (out) "Busy. Output LOW during conversion. Data valid on rising edge in Convert Mode.", 22 VS- (power) "Negative Power Supply. -12V or -15V. Bypass to GND.", 23 VSD (power) "Positive Digital Power Supply. +5V. Connect to pin 24, and bypass to GND.", 24 VSA (power) "Positive Analog Power Supply. +5V. Connect to pin 23, and bypass to GND."

## ADS7800KPG4
designator U?
12-Bit 3 us Sampling ADC, -40 to 85 degC, 24-pin DIP (NT24), Green (RoHS & no Sb/Br); Manufacturer: Texas Instruments; PartNumber: ADS7800KPG4; # Input Channels: 1; Analog Voltage AV/DD(Max)(V): 5.25; Analog Voltage AV/DD(Min)(V): 4.75; Architecture: SAR; INL(Max)(+/-LSB): 0.5; Interface: Parallel CMOS; Resolution(Bits): 12; Sample Rate (max)(SPS): 333k; SFDR(dB): 80; SINAD(dB): 72; SNR(dB): 73; SubFamily: Precision ADC (<=10MSPS); DatasheetVersion: SBAS001A; PackageVersion: 4040050/C, 04/2009; PackageReference: NT24; PackageDescription: 24-Pin Plastic Dual-In-Line Package, Body 31.64 x 6.73 mm, Pitch 2.54 mm; Supplier 1: Digi-Key; Supplier Part Number 1: ADS850YTR-ND; Digital Supply(Max)(V): 5.25; Digital Supply(Min)(V): 4.75; Eco-Plan: Green (RoHS & no Sb/Br); Mounting Technology: Through Hole; ComponentLink1Description: Manufacturer URL; ComponentLink1URL: http://www.ti.com/; ComponentLink2Description: Datasheet; ComponentLink2URL: http://www.ti.com/general/docs/lit/getliterature.tsp?genericPartNumber=ADS7800&fileType=pdf; ComponentLink3Description: Package Specification; ComponentLink3URL: http://www.ti.com/litv/pdf/mpdi004a
footprint TI-NT24 (DIP, 24-Leads, Body 31.64x6.73mm, Pitch 2.54mm)
pins: 1 IN1 (in) "+/-10V Analog Input. Connected to GND for +/-5V range.", 2 IN2 (in) "+/-5V Analog Input. Connected to GND for +/-10V range.", 3 REF (out) "+2V Reference Output. Bypass to GND with 22uF to 47uF Tantalum. Buffer for external loads.", 4 AGND (power) "Analog Ground. Connect to pin 13.", 5 D11 (hiz) "Data Bit 11. Most Significant Bit (MSB).", 6 D10 (hiz) "Data Bit 10.", 7 D9 (hiz) "Data Bit 9.", 8 D8 (hiz) "Data Bit 8.", 9 D7 (hiz) "Data Bit 7 if HBE is LOW; LOW if HBE is HIGH.", 10 D6 (hiz) "Data Bit 6 if HBE is LOW; LOW if HBE is HIGH.", 11 D5 (hiz) "Data Bit 5 if HBE is LOW; LOW if HBE is HIGH.", 12 D4 (hiz) "Data Bit 4 if HBE is LOW; LOW if HBE is HIGH.", 13 DGND (power) "Digital Ground. Connect to pin 4.", 14 D3 (hiz) "Data Bit 3 if HBE is LOW; Data Bit 11 if HBE is HIGH.", 15 D2 (hiz) "Data Bit 2 if HBE is LOW; Data Bit 10 if HBE is HIGH.", 16 D1 (hiz) "Data Bit 1 if HBE is LOW; Data Bit 9 if HBE is HIGH.", 17 D0 (hiz) "Data Bit 0 if HBE is LOW. Least Significant Bit (LSB); Data Bit 8 if HBE is HIGH.", 18 HBE (in) "High Byte Enable. When held LOW, data output as 12 bits in parallel. When held HIGH, four MSBs presented on pins 14-17, pins 9-12 output LOWs. Must be LOW to initiate conversion.", 19 R/~{C} (in) "Read/Convert. Falling edge initiates conversion when C\S\ is LOW, HBE is LOW, and B\U\S\Y\ is HIGH.", 20 ~{CS} (in) "Chip Select. Outputs in Hi-Z state when HIGH. Must be LOW to initiate conversion or read data.", 21 ~{BUSY} (out) "Busy. Output LOW during conversion. Data valid on rising edge in Convert Mode.", 22 VS- (power) "Negative Power Supply. -12V or -15V. Bypass to GND.", 23 VSD (power) "Positive Digital Power Supply. +5V. Connect to pin 24, and bypass to GND.", 24 VSA (power) "Positive Analog Power Supply. +5V. Connect to pin 23, and bypass to GND."

## ADS7800KU
designator U?
12-Bit 3 us Sampling ADC, -40 to 85 degC, 24-pin SOIC (DW24), Green (RoHS & no Sb/Br); Manufacturer: Texas Instruments; PartNumber: ADS7800KU; # Input Channels: 1; Analog Voltage AV/DD(Max)(V): 5.25; Analog Voltage AV/DD(Min)(V): 4.75; Architecture: SAR; INL(Max)(+/-LSB): 0.5; Interface: Parallel CMOS; Resolution(Bits): 12; Sample Rate (max)(SPS): 333k; SFDR(dB): 80; SINAD(dB): 72; SNR(dB): 73; SubFamily: Precision ADC (<=10MSPS); DatasheetVersion: SBAS001A; PackageVersion: 4040000-5/G, 01/2011; PackageReference: DW24; PackageDescription: 24-Pin Plastic Small Outline, Body 15.4 x 7.5 mm, Pitch 1.27 mm; Supplier 1: Digi-Key; Supplier Part Number 1: ADS850Y/250G4-ND; Digital Supply(Max)(V): 5.25; Digital Supply(Min)(V): 4.75; Eco-Plan: Green (RoHS & no Sb/Br); Mounting Technology: Surface Mount; Code_JEDEC: MS-013; ComponentLink1Description: Manufacturer URL; ComponentLink1URL: http://www.ti.com/; ComponentLink2Description: Datasheet; ComponentLink2URL: http://www.ti.com/general/docs/lit/getliterature.tsp?genericPartNumber=ADS7800&fileType=pdf; ComponentLink3Description: Package Specification; ComponentLink3URL: http://www.ti.com/litv/pdf/mpds174a
footprint TI-DW24_N (SOIC, 24-Leads, Body 15.4x7.5mm, Pitch 1.27mm, IPC Medium Density)
footprint TI-DW24_L (SOIC, 24-Leads, Body 15.4x7.5mm, Pitch 1.27mm, IPC High Density)
footprint TI-DW24_M (SOIC, 24-Leads, Body 15.4x7.5mm, Pitch 1.27mm, IPC Low Density)
pins: 1 IN1 (in) "+/-10V Analog Input. Connected to GND for +/-5V range.", 2 IN2 (in) "+/-5V Analog Input. Connected to GND for +/-10V range.", 3 REF (out) "+2V Reference Output. Bypass to GND with 22uF to 47uF Tantalum. Buffer for external loads.", 4 AGND (power) "Analog Ground. Connect to pin 13.", 5 D11 (hiz) "Data Bit 11. Most Significant Bit (MSB).", 6 D10 (hiz) "Data Bit 10.", 7 D9 (hiz) "Data Bit 9.", 8 D8 (hiz) "Data Bit 8.", 9 D7 (hiz) "Data Bit 7 if HBE is LOW; LOW if HBE is HIGH.", 10 D6 (hiz) "Data Bit 6 if HBE is LOW; LOW if HBE is HIGH.", 11 D5 (hiz) "Data Bit 5 if HBE is LOW; LOW if HBE is HIGH.", 12 D4 (hiz) "Data Bit 4 if HBE is LOW; LOW if HBE is HIGH.", 13 DGND (power) "Digital Ground. Connect to pin 4.", 14 D3 (hiz) "Data Bit 3 if HBE is LOW; Data Bit 11 if HBE is HIGH.", 15 D2 (hiz) "Data Bit 2 if HBE is LOW; Data Bit 10 if HBE is HIGH.", 16 D1 (hiz) "Data Bit 1 if HBE is LOW; Data Bit 9 if HBE is HIGH.", 17 D0 (hiz) "Data Bit 0 if HBE is LOW. Least Significant Bit (LSB); Data Bit 8 if HBE is HIGH.", 18 HBE (in) "High Byte Enable. When held LOW, data output as 12 bits in parallel. When held HIGH, four MSBs presented on pins 14-17, pins 9-12 output LOWs. Must be LOW to initiate conversion.", 19 R/~{C} (in) "Read/Convert. Falling edge initiates conversion when C\S\ is LOW, HBE is LOW, and B\U\S\Y\ is HIGH.", 20 ~{CS} (in) "Chip Select. Outputs in Hi-Z state when HIGH. Must be LOW to initiate conversion or read data.", 21 ~{BUSY} (out) "Busy. Output LOW during conversion. Data valid on rising edge in Convert Mode.", 22 VS- (power) "Negative Power Supply. -12V or -15V. Bypass to GND.", 23 VSD (power) "Positive Digital Power Supply. +5V. Connect to pin 24, and bypass to GND.", 24 VSA (power) "Positive Analog Power Supply. +5V. Connect to pin 23, and bypass to GND."

## ADS7800KUE4
designator U?
12-Bit 3 us Sampling ADC, -40 to 85 degC, 24-pin SOIC (DW24), Green (RoHS & no Sb/Br); Manufacturer: Texas Instruments; PartNumber: ADS7800KUE4; # Input Channels: 1; Analog Voltage AV/DD(Max)(V): 5.25; Analog Voltage AV/DD(Min)(V): 4.75; Architecture: SAR; INL(Max)(+/-LSB): 0.5; Interface: Parallel CMOS; Resolution(Bits): 12; Sample Rate (max)(SPS): 333k; SFDR(dB): 80; SINAD(dB): 72; SNR(dB): 73; SubFamily: Precision ADC (<=10MSPS); DatasheetVersion: SBAS001A; PackageVersion: 4040000-5/G, 01/2011; PackageReference: DW24; PackageDescription: 24-Pin Plastic Small Outline, Body 15.4 x 7.5 mm, Pitch 1.27 mm; Supplier 1: Digi-Key; Supplier Part Number 1: ADS850Y/2K-ND; Digital Supply(Max)(V): 5.25; Digital Supply(Min)(V): 4.75; Eco-Plan: Green (RoHS & no Sb/Br); Mounting Technology: Surface Mount; Code_JEDEC: MS-013; ComponentLink1Description: Manufacturer URL; ComponentLink1URL: http://www.ti.com/; ComponentLink2Description: Datasheet; ComponentLink2URL: http://www.ti.com/general/docs/lit/getliterature.tsp?genericPartNumber=ADS7800&fileType=pdf; ComponentLink3Description: Package Specification; ComponentLink3URL: http://www.ti.com/litv/pdf/mpds174a
footprint TI-DW24_N (SOIC, 24-Leads, Body 15.4x7.5mm, Pitch 1.27mm, IPC Medium Density)
footprint TI-DW24_L (SOIC, 24-Leads, Body 15.4x7.5mm, Pitch 1.27mm, IPC High Density)
footprint TI-DW24_M (SOIC, 24-Leads, Body 15.4x7.5mm, Pitch 1.27mm, IPC Low Density)
pins: 1 IN1 (in) "+/-10V Analog Input. Connected to GND for +/-5V range.", 2 IN2 (in) "+/-5V Analog Input. Connected to GND for +/-10V range.", 3 REF (out) "+2V Reference Output. Bypass to GND with 22uF to 47uF Tantalum. Buffer for external loads.", 4 AGND (power) "Analog Ground. Connect to pin 13.", 5 D11 (hiz) "Data Bit 11. Most Significant Bit (MSB).", 6 D10 (hiz) "Data Bit 10.", 7 D9 (hiz) "Data Bit 9.", 8 D8 (hiz) "Data Bit 8.", 9 D7 (hiz) "Data Bit 7 if HBE is LOW; LOW if HBE is HIGH.", 10 D6 (hiz) "Data Bit 6 if HBE is LOW; LOW if HBE is HIGH.", 11 D5 (hiz) "Data Bit 5 if HBE is LOW; LOW if HBE is HIGH.", 12 D4 (hiz) "Data Bit 4 if HBE is LOW; LOW if HBE is HIGH.", 13 DGND (power) "Digital Ground. Connect to pin 4.", 14 D3 (hiz) "Data Bit 3 if HBE is LOW; Data Bit 11 if HBE is HIGH.", 15 D2 (hiz) "Data Bit 2 if HBE is LOW; Data Bit 10 if HBE is HIGH.", 16 D1 (hiz) "Data Bit 1 if HBE is LOW; Data Bit 9 if HBE is HIGH.", 17 D0 (hiz) "Data Bit 0 if HBE is LOW. Least Significant Bit (LSB); Data Bit 8 if HBE is HIGH.", 18 HBE (in) "High Byte Enable. When held LOW, data output as 12 bits in parallel. When held HIGH, four MSBs presented on pins 14-17, pins 9-12 output LOWs. Must be LOW to initiate conversion.", 19 R/~{C} (in) "Read/Convert. Falling edge initiates conversion when C\S\ is LOW, HBE is LOW, and B\U\S\Y\ is HIGH.", 20 ~{CS} (in) "Chip Select. Outputs in Hi-Z state when HIGH. Must be LOW to initiate conversion or read data.", 21 ~{BUSY} (out) "Busy. Output LOW during conversion. Data valid on rising edge in Convert Mode.", 22 VS- (power) "Negative Power Supply. -12V or -15V. Bypass to GND.", 23 VSD (power) "Positive Digital Power Supply. +5V. Connect to pin 24, and bypass to GND.", 24 VSA (power) "Positive Analog Power Supply. +5V. Connect to pin 23, and bypass to GND."

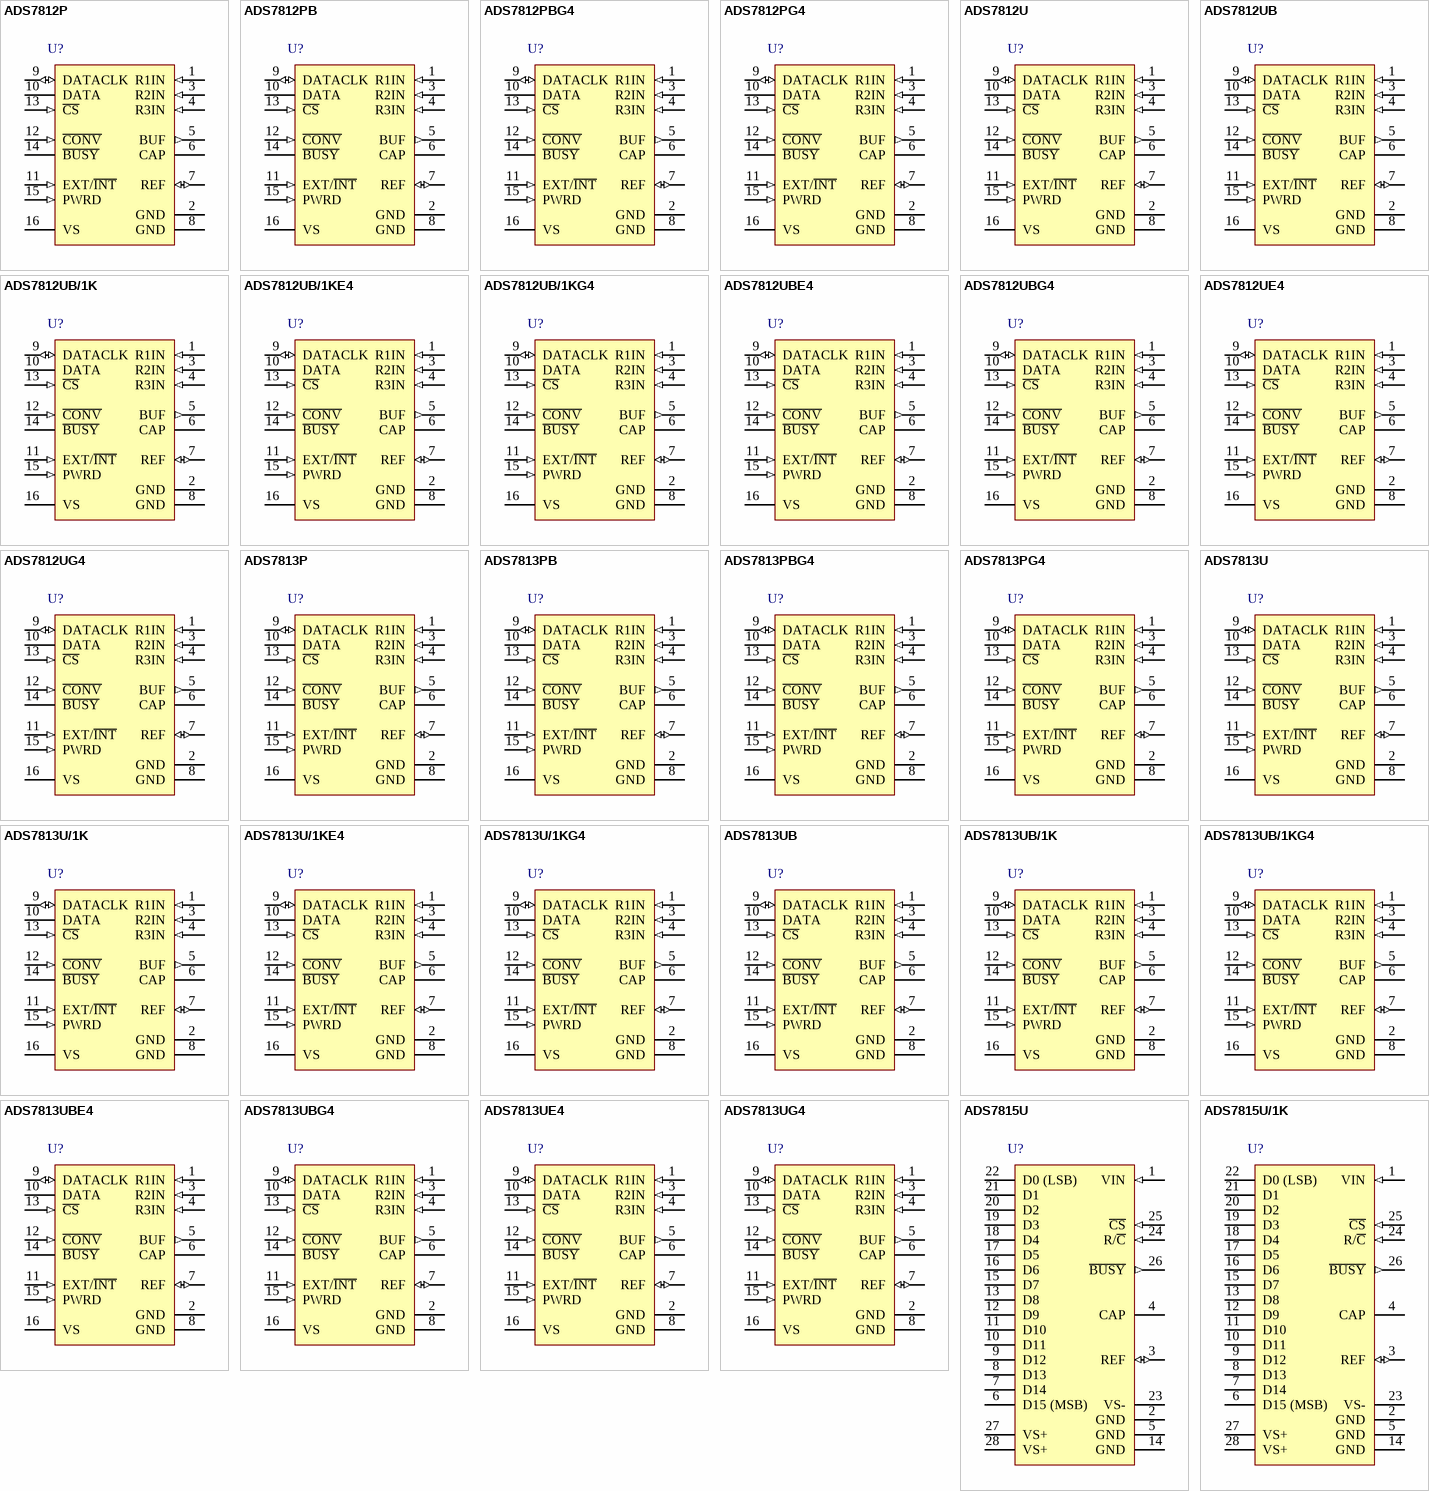
[diagram p58: symbols ADS7812P to ADS7815U/1K]

## ADS7812P
designator U?
Low-Power, Serial 12-Bit Sampling ADC, -40 to 85 degC, 16-pin DIP (N16), Green (RoHS & no Sb/Br); Manufacturer: Texas Instruments; PartNumber: ADS7812P; # Input Channels: 1; Analog Voltage AV/DD(Max)(V): 5.25; Analog Voltage AV/DD(Min)(V): 4.75; Architecture: SAR; Interface: Serial SPI; Resolution(Bits): 12; Sample Rate (max)(SPS): 40k; SFDR(dB): 98; SINAD(dB): 74; SubFamily: Precision ADC (<=10MSPS); DatasheetVersion: SBAS042A; PackageVersion: 4040049/E, 12/2002; PackageReference: N16; PackageDescription: 16-Pin Plastic In-Line, Body 19.305 x 6.35 mm, Pitch 2.54 mm; Supplier 1: Digi-Key; Supplier Part Number 1: ADS7864YTR-ND; Digital Supply(Max)(V): 5.25; Digital Supply(Min)(V): 4.75; Eco-Plan: Green (RoHS & no Sb/Br); INL(Max)(+/-LSB): 1; SNR(dB): 74; Mounting Technology: Through Hole; Code_JEDEC: MS-001; ComponentLink1Description: Manufacturer URL; ComponentLink1URL: http://www.ti.com/; ComponentLink2Description: Datasheet; ComponentLink2URL: http://www.ti.com/general/docs/lit/getliterature.tsp?genericPartNumber=ADS7812&fileType=pdf; ComponentLink3Description: Package Specification; ComponentLink3URL: http://www.ti.com/litv/pdf/mpdi002c
footprint TI-N16 (DIP, 16-Leads, Body 19.305x6.35mm, Pitch 2.54mm)
pins: 1 R1IN (in) "Analog input", 2 GND (power) "Ground.", 3 R2IN (in) "Analog input", 4 R3IN (in) "Analog input", 5 BUF (out) "Reference buffer output. Connect to R1IN, R2IN, or R3IN as needed", 6 CAP "Reference buffer compensation node. Decouple to ground with a 1-uF tantalum capacitor in parallel with a 0.01uF ceramic capacitor.", 7 REF (io) "Reference input/output. Outputs internal 2.5V reference via a series 4kohm resistor. Decouple this voltage with a 1uF to 2.2uF tantalum capacitor to ground. If an external reference voltage is applied to this pin, it (See Datasheet)", 8 GND (power) "Ground.", 9 DATACLK (io) "Data clock pin. With EXT/I\N\T\ low, this pin is an output and provides the synchronous clock for the serial data. The output is 3-stated when C\S\ is high. With EXT/I\N\T\ high, this pin is an input and the serial data (See Datasheet)", 10 DATA (hiz) "Serial data output. The serial data are always the result of the last completed conversion and are synchronized to DATACLK. If DATACLK is from the internal clock (EXT/I\N\T\ low), the serial data are valid on both the rising (See Datasheet)", 11 EXT/~{INT} (in), 12 ~{CONV} (in) "Convert input. A falling edge on this input puts the internal sample/hold into the hold state and starts a conversion regardless of the state of C\S\. If a conversion is already in progress, the falling edge is ignored. If (See Datasheet)", 13 ~{CS} (in) "Chip select. This input 3-states all outputs when high and enables all outputs when low, including DATA, B\U\S\Y\, and DATACLK (when EXT/I\N\T\ is low). Note that a falling edge on C\O\N\V\ initiates a conversion even when (See Datasheet)", 14 ~{BUSY} (hiz) "Busy output. When a conversion starts, B\U\S\Y\ goes low and remains low throughout the conversion. If EXT/I\N\T\ is low, data are serially transmitted while B\U\S\Y\ is low. B\U\S\Y\ is 3-stated when C\S\ is high.", 15 PWRD (in) "Power-down input. When high, the majority of the ADS7812/ADS7813/ADS8513 circuitry is placed in a low-power mode and power consumption is significantly reduced.", 16 VS (power) "+5V supply input. For best performance, decouple to ground with a 0.1uF ceramic capacitor in parallel with a 10uF tantalum capacitor."

## ADS7812PB
designator U?
Low-Power, Serial 12-Bit Sampling ADC, -40 to 85 degC, 16-pin DIP (N16), Green (RoHS & no Sb/Br); Manufacturer: Texas Instruments; PartNumber: ADS7812PB; # Input Channels: 1; Analog Voltage AV/DD(Max)(V): 5.25; Analog Voltage AV/DD(Min)(V): 4.75; Architecture: SAR; INL(Max)(+/-LSB): 0.5; Interface: Serial SPI; Resolution(Bits): 12; Sample Rate (max)(SPS): 40k; SFDR(dB): 98; SINAD(dB): 74; SubFamily: Precision ADC (<=10MSPS); DatasheetVersion: SBAS042A; PackageVersion: 4040049/E, 12/2002; PackageReference: N16; PackageDescription: 16-Pin Plastic In-Line, Body 19.305 x 6.35 mm, Pitch 2.54 mm; Supplier 1: Digi-Key; Supplier Part Number 1: ADS7864Y/250G4-ND; Digital Supply(Max)(V): 5.25; Digital Supply(Min)(V): 4.75; Eco-Plan: Green (RoHS & no Sb/Br); SNR(dB): 74; Mounting Technology: Through Hole; Code_JEDEC: MS-001; ComponentLink1Description: Manufacturer URL; ComponentLink1URL: http://www.ti.com/; ComponentLink2Description: Datasheet; ComponentLink2URL: http://www.ti.com/general/docs/lit/getliterature.tsp?genericPartNumber=ADS7812&fileType=pdf; ComponentLink3Description: Package Specification; ComponentLink3URL: http://www.ti.com/litv/pdf/mpdi002c
footprint TI-N16 (DIP, 16-Leads, Body 19.305x6.35mm, Pitch 2.54mm)
pins: 1 R1IN (in) "Analog input", 2 GND (power) "Ground.", 3 R2IN (in) "Analog input", 4 R3IN (in) "Analog input", 5 BUF (out) "Reference buffer output. Connect to R1IN, R2IN, or R3IN as needed", 6 CAP "Reference buffer compensation node. Decouple to ground with a 1-uF tantalum capacitor in parallel with a 0.01uF ceramic capacitor.", 7 REF (io) "Reference input/output. Outputs internal 2.5V reference via a series 4kohm resistor. Decouple this voltage with a 1uF to 2.2uF tantalum capacitor to ground. If an external reference voltage is applied to this pin, it (See Datasheet)", 8 GND (power) "Ground.", 9 DATACLK (io) "Data clock pin. With EXT/I\N\T\ low, this pin is an output and provides the synchronous clock for the serial data. The output is 3-stated when C\S\ is high. With EXT/I\N\T\ high, this pin is an input and the serial data (See Datasheet)", 10 DATA (hiz) "Serial data output. The serial data are always the result of the last completed conversion and are synchronized to DATACLK. If DATACLK is from the internal clock (EXT/I\N\T\ low), the serial data are valid on both the rising (See Datasheet)", 11 EXT/~{INT} (in), 12 ~{CONV} (in) "Convert input. A falling edge on this input puts the internal sample/hold into the hold state and starts a conversion regardless of the state of C\S\. If a conversion is already in progress, the falling edge is ignored. If (See Datasheet)", 13 ~{CS} (in) "Chip select. This input 3-states all outputs when high and enables all outputs when low, including DATA, B\U\S\Y\, and DATACLK (when EXT/I\N\T\ is low). Note that a falling edge on C\O\N\V\ initiates a conversion even when (See Datasheet)", 14 ~{BUSY} (hiz) "Busy output. When a conversion starts, B\U\S\Y\ goes low and remains low throughout the conversion. If EXT/I\N\T\ is low, data are serially transmitted while B\U\S\Y\ is low. B\U\S\Y\ is 3-stated when C\S\ is high.", 15 PWRD (in) "Power-down input. When high, the majority of the ADS7812/ADS7813/ADS8513 circuitry is placed in a low-power mode and power consumption is significantly reduced.", 16 VS (power) "+5V supply input. For best performance, decouple to ground with a 0.1uF ceramic capacitor in parallel with a 10uF tantalum capacitor."